# EAGLE library part FXAS21002C (library _microMouse)
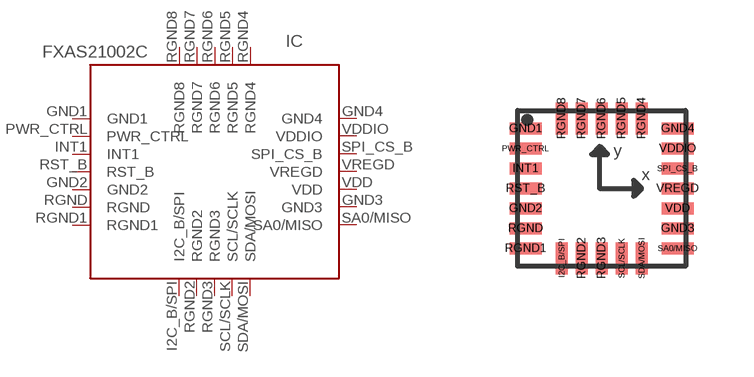
[diagram p1: symbol with the pads of QFN24-4X4; footprint QFN24-4X4]

Designator prefix IC

## FXAS21002C  [QFN24-4X4]
GND1  GND1
GND2  GND2
GND3  GND3
GND4  GND4
I2C_B/SPI  I2C_B/SPI
INT1  INT1
PWR_CTRL  PWR_CTRL
RGND  RGND
RGND1  RGND1
RGND2  RGND2
RGND3  RGND3
RGND4  RGND4
RGND5  RGND5
RGND6  RGND6
RGND7  RGND7
RGND8  RGND8
RST_B  RST_B
SA0/MISO  SA0/MISO
SCL/SCLK  SCL/SCLK
SDA/MOSI  SDA/MOSI
SPI_CS_B  SPI_CS_B
VDD  VDD
VDDIO  VDDIO
VREGD  VREGD

## Footprint QFN24-4X4 (pad centres in mm)
smd 0.8 x 0.3: GND1 -1.85,1.5; GND2 -1.85,-0.5; GND3 1.95,-1; GND4 1.95,1.5; INT1 -1.85,0.5; PWR_CTRL -1.85,1; RGND -1.85,-1; RGND1 -1.85,-1.5; RST_B -1.85,0; SA0/MISO 1.95,-1.5; SPI_CS_B 1.95,0.5; VDD 1.95,-0.5; VDDIO 1.95,1; VREGD 1.95,0
smd 0.3 x 0.8: I2C_B/SPI -0.95,-1.75; RGND2 -0.45,-1.75; RGND3 0.05,-1.75; RGND4 1.05,1.75; RGND5 0.55,1.75; RGND6 0.05,1.75; RGND7 -0.45,1.75; RGND8 -0.95,1.75; SCL/SCLK 0.55,-1.75; SDA/MOSI 1.05,-1.75